# Altium schematic symbol library 电流测试工装板.SCHLIB: 46 symbols
Pins are listed as number, name and electrical type; pins without a type are passive.

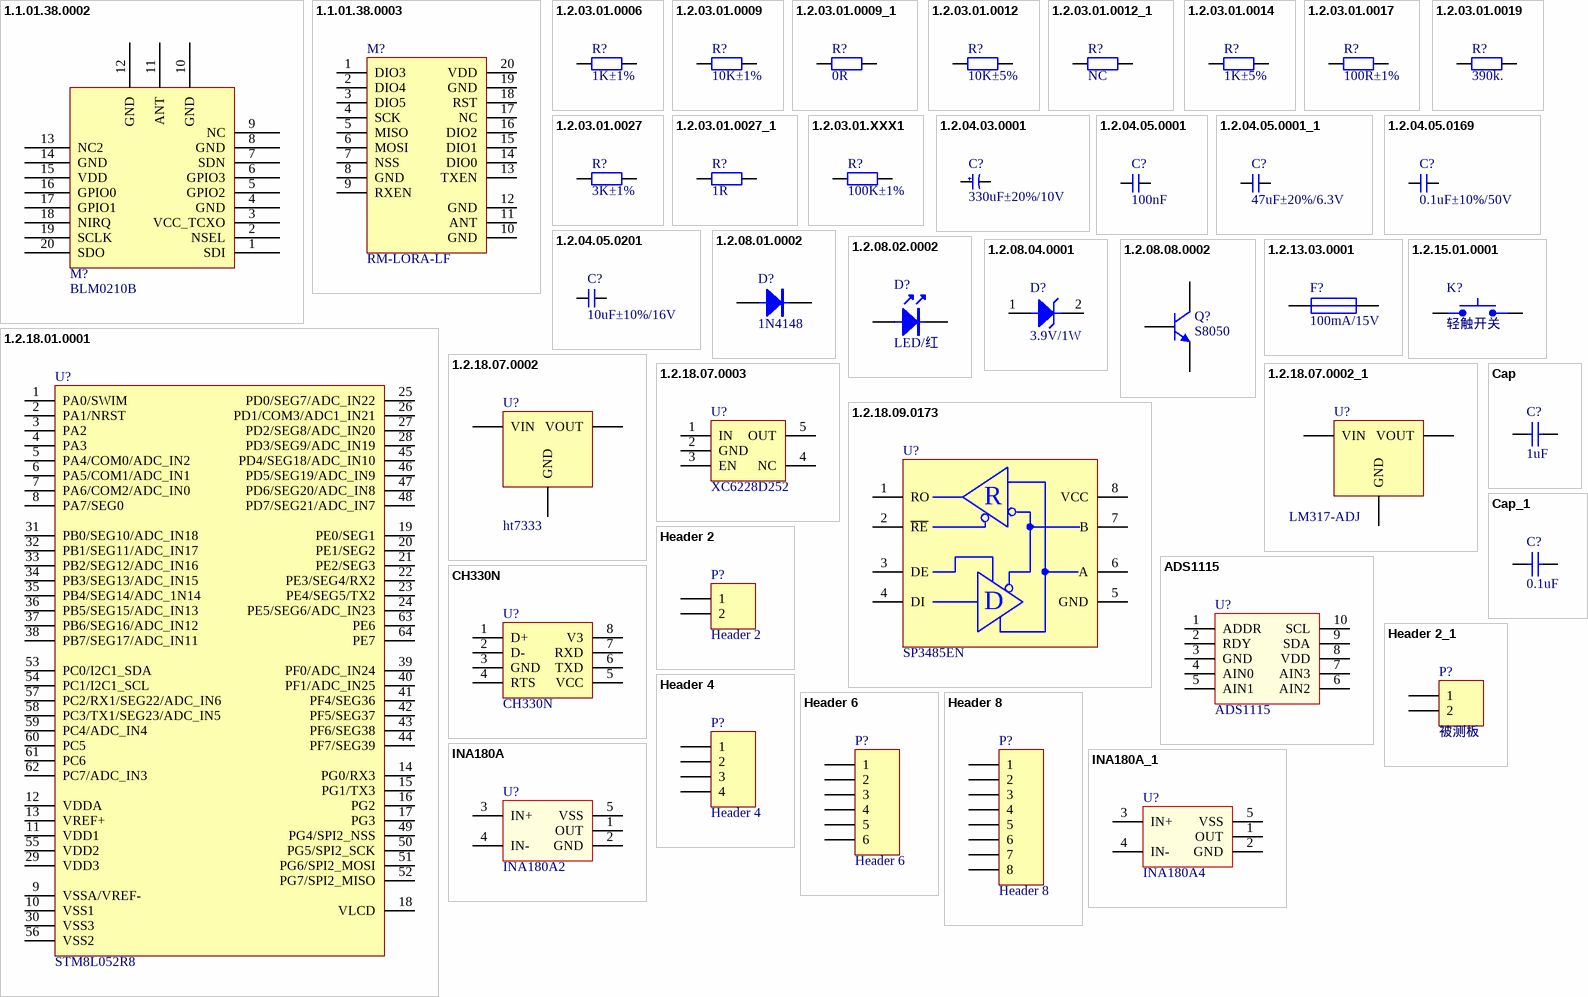
[diagram p0: symbols 1.1.01.38.0002 to INA180A_1]

## 1.1.01.38.0002
designator M?, comment BLM0210B
SI4463模块，不带LNA; Part Number: 1.1.01.38.0002; 厂家: 苏州博联; 器件高度: 待定; D/S: S; Edit Note: V1.0-创建-20180709-徐永伟; 物料等级: 研发; Part Type: RF模块; Value: BLM0210B; ComponentLink1URL: Z:\规格书\02原材料\21电路模块\04无线模块\4463模块资料.rar; 厂家型号: BLM0210B; Unit Price: ￥0.001; Footprint: SMT; ComponentLink1Description: 资料包; Component Type: standy; Pin Count: 20; Published: V1.0; Publisher: 徐永伟
footprint FskMode_BL
pins: 1 SDI, 2 NSEL, 3 VCC_TCXO, 4 GND, 5 GPIO2, 6 GPIO3, 7 SDN, 8 GND, 9 NC, 10 GND, 11 ANT, 12 GND, 13 NC2, 14 GND, 15 VDD, 16 GPIO0, 17 GPIO1, 18 NIRQ, 19 SCLK, 20 SDO

## 1.1.01.38.0003
designator M?, comment RM-LORA-LF
LORA模块_RM-LORA-PCB11-V2.21_430M~490M_Pout=17dBm_SMD20; Part Number: 1.1.01.38.0003; 厂家: 瑞臻信息; 器件高度: 待定; D/S: S; Edit Note: V1.0-创建-20180709-徐永伟; 物料等级: 量产; Part Type: RF模块; Value: RM-LORA-LF; ComponentLink1URL: Z:\规格书\02原材料\21电路模块\04无线模块\; 厂家型号: RM-LORA-PCB11-V2.21; Unit Price: ￥0.001; Footprint: SMT; ComponentLink1Description: 资料包; Component Type: standy; Pin Count: 20; Published: V1.0; Publisher: 徐永伟
footprint LORA_PIN_1
pins: 1 DIO3, 2 DIO4, 3 DIO5, 4 SCK, 5 MISO, 6 MOSI, 7 NSS, 8 GND, 9 RXEN, 10 GND, 11 ANT, 12 GND, 13 TXEN, 14 DIO0, 15 DIO1, 16 DIO2, 17 NC, 18 RST, 19 GND, 20 VDD

## 1.2.03.01.0006
designator R?, comment 1K±1%
电阻_1K±1%_1/10W_0603; Part Number: 1.2.03.01.0006; 厂家: 旺诠; 器件高度: 0.5mm; 厂家型号: RTT031001FTP; 单价: ￥0.001; 封装: R0603; D/S: S; 焊点: 2; 版本: V1.0; 创建者: 徐永伟; 编辑记录: V1.0-创建-20190329-徐永伟; 物料等级: 量产; Part Type: 贴片电阻; Value: 1K±1%; ComponentLink1URL: z:\规格书\02原材料\03电阻\01普通电阻\旺诠电阻.pdf; 供应商: 供应商; ComponentLink1Description: 规格书; ComponentLink2Description: ROHS报告; ComponentLink5Description: 代理资质; ComponentLink3Description: 可靠性测试报告; ComponentLink4Description: 性能检测报告
footprint R0603
pins: 1, 2

## 1.2.03.01.0009
designator R?, comment 10K±1%
电阻_10K±1%_1/10W_0603; Part Number: 1.2.03.01.0009; 厂家: 旺诠; 器件高度: 0.5mm; 厂家型号: RTT031002FTP; 单价: ￥0.001; 封装: R0603; D/S: S; 焊点: 2; 版本: V1.0; 创建者: 徐永伟; 编辑记录: V1.0-创建-20190329-徐永伟; 物料等级: 量产; Part Type: 贴片电阻; Value: 10K±1%; ComponentLink1URL: z:\规格书\02原材料\03电阻\01普通电阻\旺诠电阻.pdf; 供应商: 供应商; ComponentLink1Description: 规格书; ComponentLink2Description: ROHS报告; ComponentLink5Description: 代理资质; ComponentLink3Description: 可靠性测试报告; ComponentLink4Description: 性能检测报告
footprint R0603
pins: 1, 2

## 1.2.03.01.0009_1
designator R?, comment 0R
电阻_10K±1%_1/10W_0603; Part Number: 1.2.03.01.0009; Value: 10K±1%; 厂家: 旺诠; 器件高度: 0.5mm; 厂家型号: RTT031002FTP; 单价: ￥0.001; 封装: R0603; D/S: S; 焊点: 2; 版本: V1.0; 创建者: 徐永伟; 编辑记录: V1.0-创建-20190329-徐永伟; 物料等级: 量产; Part Type: 贴片电阻; ComponentLink1URL: z:\规格书\02原材料\03电阻\01普通电阻\旺诠电阻.pdf; 供应商: 供应商; ComponentLink1Description: 规格书; ComponentLink2Description: ROHS报告; ComponentLink5Description: 代理资质; ComponentLink3Description: 可靠性测试报告; ComponentLink4Description: 性能检测报告
footprint R0603
pins: 1, 2

## 1.2.03.01.0012
designator R?, comment 10K±5%
电阻_10K±5%_1/16W_0402; Part Number: 1.2.03.01.0012; 厂家: 旺诠; 器件高度: 0.5mm; 厂家型号: RTT02103JTH; 单价: ￥0.001; 封装: R0402; D/S: S; 焊点: 2; 版本: V1.0; 创建者: 徐永伟; 编辑记录: V1.0-创建-20190329-徐永伟; 物料等级: 量产; Part Type: 贴片电阻; Value: 10K±5%; ComponentLink1URL: z:\规格书\02原材料\03电阻\01普通电阻\旺诠电阻.pdf; 供应商: 供应商; ComponentLink1Description: 规格书; ComponentLink2Description: ROHS报告; ComponentLink5Description: 代理资质; ComponentLink3Description: 可靠性测试报告; ComponentLink4Description: 性能检测报告
footprint R0402
pins: 1, 2

## 1.2.03.01.0012_1
designator R?, comment NC
电阻_10K±5%_1/16W_0402; Part Number: 1.2.03.01.0012; Value: 10K±5%; 厂家: 旺诠; 器件高度: 0.5mm; 厂家型号: RTT02103JTH; 单价: ￥0.001; 封装: R0402; D/S: S; 焊点: 2; 版本: V1.0; 创建者: 徐永伟; 编辑记录: V1.0-创建-20190329-徐永伟; 物料等级: 量产; Part Type: 贴片电阻; ComponentLink1URL: z:\规格书\02原材料\03电阻\01普通电阻\旺诠电阻.pdf; 供应商: 供应商; ComponentLink1Description: 规格书; ComponentLink2Description: ROHS报告; ComponentLink5Description: 代理资质; ComponentLink3Description: 可靠性测试报告; ComponentLink4Description: 性能检测报告
footprint R0402
pins: 1, 2

## 1.2.03.01.0014
designator R?, comment 1K±5%
电阻_1K±5%_1/16W_0402; Part Number: 1.2.03.01.0014; 厂家: 旺诠; 器件高度: 0.5mm; 厂家型号: RTT02102JTH; 单价: ￥0.001; 封装: R0402; D/S: S; 焊点: 2; 版本: V1.0; 创建者: 徐永伟; 编辑记录: V1.0-创建-20190329-徐永伟; 物料等级: 量产; Part Type: 贴片电阻; Value: 1K±5%; ComponentLink1URL: z:\规格书\02原材料\03电阻\01普通电阻\旺诠电阻.pdf; 供应商: 供应商; ComponentLink1Description: 规格书; ComponentLink2Description: ROHS报告; ComponentLink5Description: 代理资质; ComponentLink3Description: 可靠性测试报告; ComponentLink4Description: 性能检测报告
footprint R0402
pins: 1, 2

## 1.2.03.01.0017
designator R?, comment 100R±1%
电阻_100R±1%_1/10W_0603; Part Number: 1.2.03.01.0017; 厂家: 华科; 器件高度: 0.5mm; 厂家型号: WR06X1000FTL; 单价: ￥0.001; 封装: R0603; D/S: S; 焊点: 2; 版本: V1.0; 创建者: 徐永伟; 编辑记录: V1.0-创建-20190329-徐永伟; 物料等级: 量产; Part Type: 贴片电阻; Value: 100R±1%; ComponentLink1URL: z:\规格书\02原材料\03电阻\01普通电阻\华科电阻.pdf; 供应商: 供应商; ComponentLink1Description: 规格书; ComponentLink2Description: ROHS报告; ComponentLink5Description: 代理资质; ComponentLink3Description: 可靠性测试报告; ComponentLink4Description: 性能检测报告
footprint R0603
pins: 1, 2

## 1.2.03.01.0019
designator R?, comment 390k.
电阻_510R±1%_1/16W_0402; Part Number: 1.2.03.01.0019; Value: 510K±1%; 厂家: 厚声; 器件高度: 0.5mm; 厂家型号: 0402WGF5103TCE; 单价: ￥0.001; 封装: R0402; D/S: S; 焊点: 2; 版本: V1.0; 创建者: 徐永伟; 编辑记录: V1.0-创建-20190329-徐永伟; 物料等级: 量产; Part Type: 贴片电阻; ComponentLink1URL: z:\规格书\02原材料\03电阻\01普通电阻\厚声电阻.pdf; 供应商: 供应商; ComponentLink1Description: 规格书; ComponentLink2Description: ROHS报告; ComponentLink5Description: 代理资质; ComponentLink3Description: 可靠性测试报告; ComponentLink4Description: 性能检测报告
footprint R0402
pins: 1, 2

## 1.2.03.01.0027
designator R?, comment 3K±1%
电阻_3K±1%_1/10W_0603; Part Number: 1.2.03.01.0027; 厂家: 国巨; 器件高度: 0.5mm; 厂家型号: RC0603FR-073KL; 单价: ￥0.001; 封装: R0603; D/S: S; 焊点: 2; 版本: V1.0; 创建者: 徐永伟; 编辑记录: V1.0-创建-20190329-徐永伟; 物料等级: 量产; Part Type: 贴片电阻; Value: 3K±1%; ComponentLink1URL: z:\规格书\02原材料\03电阻\01普通电阻\国巨电阻.pdf; 供应商: 供应商; ComponentLink1Description: 规格书; ComponentLink2Description: ROHS报告; ComponentLink5Description: 代理资质; ComponentLink3Description: 可靠性测试报告; ComponentLink4Description: 性能检测报告
footprint R0603
pins: 1, 2

## 1.2.03.01.0027_1
designator R?, comment 1R
电阻_3K±1%_1/10W_0603; Part Number: 1.2.03.01.0027; Value: 3K±1%; 厂家: 国巨; 器件高度: 0.5mm; 厂家型号: RC0603FR-073KL; 单价: ￥0.001; 封装: R0603; D/S: S; 焊点: 2; 版本: V1.0; 创建者: 徐永伟; 编辑记录: V1.0-创建-20190329-徐永伟; 物料等级: 量产; Part Type: 贴片电阻; ComponentLink1URL: z:\规格书\02原材料\03电阻\01普通电阻\国巨电阻.pdf; 供应商: 供应商; ComponentLink1Description: 规格书; ComponentLink2Description: ROHS报告; ComponentLink5Description: 代理资质; ComponentLink3Description: 可靠性测试报告; ComponentLink4Description: 性能检测报告
footprint R0603
pins: 1, 2

## 1.2.03.01.XXX1
designator R?, comment 100K±1%
贴片电阻，1K±5%，1/16W，50V，0402; Part Number: 1.2.03.01.XXX1; Supplier Manufacturer: Hottchohm; Old P/N: 00528; Value: 22K±1%; D/S: S; Edit Note: V1.0-创建-20160831-徐永伟; Part Type: 普通电阻; Supplier: 供应商; height: 0.5mm; Unit Price: ￥0.001; Footprint: 0402; ComponentLink1Description: 规格书; Component Type: standy; Pin Count: 2; Published: V1.0; Publisher: 徐永伟
footprint R0402
pins: 1, 2

## 1.2.04.03.0001
designator C?, comment 330uF±20%/10V
电解电容_330uF±20%/10V_0.2R_-40~105℃_4000Hours_D6R3H11; Part Number: 1.2.04.03.0001; 厂家: 常州华威; 器件高度: 11mm; D/S: D; Edit Note: V1.0-创建-20190329-徐永伟; 物料等级: 试产; Part Type: 电解电容; Value: 330uF±20%/10V; ComponentLink1URL: z:\规格书\02原材料\04电容\03铝电解电容\常州超威电解电容RT系列.pdf; Unit Price: ￥0.001; Footprint: DIP; ComponentLink1Description: 规格书; Component Type: standy; Pin Count: 2; Published: V1.0; Publisher: 徐永伟
footprint CAP_2P_2R5_D6R3H11_W
pins: 1, 2

## 1.2.04.05.0001
designator C?, comment 100nF
MLCC_47uF±20%_6.3V_X5R_H1.6mm_1206; Part Number: 1.2.04.05.0001; Value: 20pF; 厂家: 三星; 器件高度: 1.6mm; 厂家型号: CL31A476MQHNNNE; D/S: S; Edit Note: V1.0-创建-20180711-徐永伟; 器件状态: 试产; Part Type: MLCC; ComponentLink1URL: z:\规格书\02原材料\04电容\05瓷片电容\SAMS-S-A0000377162-1.pdf; Unit Price: ￥0.001; Footprint: 1206; ComponentLink1Description: 规格书; Component Type: standy; Pin Count: 2; Published: V1.0; Publisher: 徐永伟
footprint c0402 (C0402)
pins: 1, 2

## 1.2.04.05.0001_1
designator C?, comment 47uF±20%/6.3V
MLCC_47uF±20%_6.3V_X5R_H1.6mm_1206; Part Number: 1.2.04.05.0001; 厂家: 三星; 器件高度: 1.6mm; 厂家型号: CL31A476MQHNNNE; D/S: S; Edit Note: V1.0-创建-20180711-徐永伟; 物料等级: 试产; Part Type: MLCC; Value: 47uF±20%/6.3V; ComponentLink1URL: z:\规格书\02原材料\04电容\05瓷片电容\SAMS-S-A0000377162-1.pdf; Unit Price: ￥0.001; Footprint: C1206; ComponentLink1Description: 规格书; Component Type: standy; Pin Count: 2; Published: V1.0; Publisher: 徐永伟
footprint C1206
pins: 1, 2

## 1.2.04.05.0169
designator C?, comment 0.1uF±10%/50V
瓷片电容-0.1uF-±10%-16V-X5R-0402; Part Number: 1.2.04.05.0169; Supplier Manufacturer: 未知; Old P/N: 00011; D/S: S; Edit Note: V1.0-创建-20161230-徐永伟; Grade: A; Part Type: MLCC; Value: 0.1uF±10%/50V; ComponentLink1URL: z:\altiumdesigner\规格书\02原材料\04电容\05瓷片电容\; Supplier: 供应商; height: XX; Model: 未知; Unit Price: ￥0.001; Footprint: 0402; ComponentLink1Description: 规格书; Component Type: standy; ComponentLink2Description: ROHS报告; ComponentLink2URL: z:\altiumdesigner\规格书\02原材料\04电容\05瓷片电容\; Pin Count: 2; Published: V1.0; Publisher: 徐永伟
footprint c0402 (C0402)
pins: 1, 2

## 1.2.04.05.0201
designator C?, comment 10uF±10%/16V
瓷片电容-10uF-±10%-16V-X5R-0805; Part Number: 1.2.04.05.0201; Supplier Manufacturer: 未知; Old P/N: 00106; D/S: S; Edit Note: V1.0-创建-20161230-徐永伟; Grade: A; Part Type: MLCC; Value: 10uF±10%/16V; ComponentLink1URL: z:\altiumdesigner\规格书\02原材料\04电容\05瓷片电容\; Supplier: 供应商; height: XX; Model: 未知; Unit Price: ￥0.001; Footprint: 0805; ComponentLink1Description: 规格书; Component Type: standy; ComponentLink2Description: ROHS报告; ComponentLink2URL: z:\altiumdesigner\规格书\02原材料\04电容\05瓷片电容\; Pin Count: 2; Published: V1.0; Publisher: 徐永伟
footprint c0805 (Chip Capacitor, 2-Leads, Body 2.00x1.20mm, IPC Medium Density)
pins: 1, 2

## 1.2.08.01.0002
designator D?, comment 1N4148
开关二极管_1N4148_0.3A/100V_Vf=0.5V_SOD123; Part Number: 1.2.08.01.0002; 单价: ￥0.001; D/S: S; Edit Note: V1.0-创建-20190815-徐永伟; 物料等级: 量产; Part Type: 开关二极管; Value: 1N4148; ComponentLink1URL: Z:\规格书\02原材料\08晶体管\01二极管\1N4148SOD123.PDF; 厂家型号: 1N4148; Footprint: SOD123; ComponentLink1Description: 规格书; Component Type: standy; Pin Count: 2; Published: V1.0; Publisher: 徐永伟
footprint SOD123_2P_1R6X2R7
pins: 1 A, 2 K

## 1.2.08.02.0002
designator D?, comment LED/红
发光二极管_红色_Vf=2.3V_0603; Part Number: 1.2.08.02.0002; 单价: ￥0.001; D/S: S; Edit Note: V1.0-创建-20190815-徐永伟; 物料等级: 量产; Part Type: LED; Value: LED/红; ComponentLink1URL: Z:\规格书\02原材料\08晶体管\02发光二极管\E6C0603URAC1UDA(630nm).pdf; 代理商: 代理商; Footprint: 0603; ComponentLink1Description: 规格书; Component Type: standy; Pin Count: 2; Published: V1.0; Publisher: 徐永伟
footprint PZ_1X2P_2R54_Z
pins: 1 A, 2 K

## 1.2.08.04.0001
designator D?, comment 3.9V/1W
稳压二极管_ZM4730A_3.9V/1W_LL41; Part Number: 1.2.08.04.0001; 单价: ￥0.001; D/S: S; Edit Note: V1.0-创建-20190815-徐永伟; 物料等级: 量产; Part Type: 稳压二极管; Value: 3.9V/1W; ComponentLink1URL: Z:\规格书\02原材料\08晶体管\04稳压二极管\ZM4730A.pdf; 代理商: 代理商; 厂家型号: ZM4730A; Footprint: LL41; ComponentLink1Description: 规格书; Component Type: standy; Pin Count: 2; Published: V1.0; Publisher: 徐永伟
footprint LL41_2P_D2R5H5R0
pins: 1 A, 2 K

## 1.2.08.08.0002
designator Q?, comment S8050
三极管	_NPN_S8050_Vceo=25V_Ic=0.5A_β>50_SOT23; Part Number: 1.2.08.08.0002; 单价: ￥0.001; D/S: S; Edit Note: V1.0-创建-20190815-徐永伟; 物料等级: 量产; Part Type: 三极管; Value: S8050; ComponentLink1URL: Z:\规格书\02原材料\08晶体管\08三极管\S8050_SOT23.pdf; 代理商: 代理商; 厂家型号: S8050; Footprint: SOT23; ComponentLink1Description: 规格书; Component Type: standy; Pin Count: 3; Published: V1.0; Publisher: 徐永伟
footprint SOT23_3P_0R95_1R3X2R9
pins: 1 B, 2 E, 3 C

## 1.2.13.03.0001
designator F?, comment 100mA/15V
自恢复保险丝_0.05A/15V_100A_0.5W_0.5A/1.5s_0603; Part Number: 1.2.13.03.0001; Model: ASMD0603-010; D/S: S; Edit Note: V1.0-创建-20190816-徐永伟; 物料等级: 研发; Part Type: 自恢复保险丝; Value: 100mA/15V; ComponentLink1URL: Z:\规格书\02原材料\13保护器件\03自恢复保险丝\0.05APTC.PDF; height: 1.0mm; Unit Price: ￥0.001; Footprint: 0603; ComponentLink1Description: 规格书; Component Type: standy; Pin Count: 2; Published: V1.0; Publisher: 徐永伟
footprint FUSE0603
pins: 1, 2

## 1.2.15.01.0001
designator K?, comment 轻触开关
轻触开关_12Vdc/50mA_0.25mm_250gf_3.6X6.1X2.5mm_表贴SMD; Part Number: 1.2.15.01.0001; D/S: S; Edit Note: V1.0-创建-20190825-徐永伟; 物料等级: 量产; Part Type: 贴片轻触开关; Value: 轻触开关; ComponentLink1URL: Z:\规格书\02原材料\15机械开关\01轻触按钮开关\C118141.pdf; height: 2.5mm; Unit Price: ￥0.001; Footprint: 3.5X6.0; ComponentLink1Description: 规格书; Component Type: standy; Pin Count: 2; Published: V1.0; Publisher: 徐永伟
footprint PZ_1X2P_2R54_Z
pins: 1, 2

## 1.2.18.01.0001
designator U?, comment STM8L052R8
MCU_STM8L052R8_Vin=1.8~3.6V_16MHz_Flash/64Kb_RAM/4Kb_8位_E2PROM/256B_LCD8X24_-40~85℃_LQFP64; Part Number: 1.2.18.01.0001; 厂家: ST; 器件高度: 1.6mm; 厂家型号: STM8L052R8T6; 单价: ￥0.001; D/S: S; Edit Note: V1.0-创建-20170105-徐永伟; 物料等级: 量产; Part Type: MCU; Value: STM8L052R8; ComponentLink1URL: Z:\规格书\02原材料\18集成电路\01通用处理器\STM8L052R8.pdf; Footprint: LQFP64; ComponentLink1Description: 规格书; Component Type: standy; ComponentLink2Description: 用户手册; ComponentLink2URL: Z:\规格书\02原材料\18集成电路\01通用处理器\STM8L参考手册.pdf; Pin Count: 64; Published: V1.0; Publisher: 徐永伟
footprint LQFP_64P_0R5_10R0X10R0
pins: 1 PA0/SWIM, 2 PA1/NRST, 3 PA2, 4 PA3, 5 PA4/COM0/ADC_IN2, 6 PA5/COM1/ADC_IN1, 7 PA6/COM2/ADC_IN0, 8 PA7/SEG0, 9 VSSA/VREF-, 10 VSS1, 11 VDD1, 12 VDDA, 13 VREF+, 14 PG0/RX3, 15 PG1/TX3, 16 PG2, 17 PG3, 18 VLCD, 19 PE0/SEG1, 20 PE1/SEG2, 21 PE2/SEG3, 22 PE3/SEG4/RX2, 23 PE4/SEG5/TX2, 24 PE5/SEG6/ADC_IN23, 25 PD0/SEG7/ADC_IN22, 26 PD1/COM3/ADC1_IN21, 27 PD2/SEG8/ADC_IN20, 28 PD3/SEG9/ADC_IN19, 29 VDD3, 30 VSS3, 31 PB0/SEG10/ADC_IN18, 32 PB1/SEG11/ADC_IN17, 33 PB2/SEG12/ADC_IN16, 34 PB3/SEG13/ADC_IN15, 35 PB4/SEG14/ADC_1N14, 36 PB5/SEG15/ADC_IN13, 37 PB6/SEG16/ADC_IN12, 38 PB7/SEG17/ADC_IN11, 39 PF0/ADC_IN24, 40 PF1/ADC_IN25, 41 PF4/SEG36, 42 PF5/SEG37, 43 PF6/SEG38, 44 PF7/SEG39, 45 PD4/SEG18/ADC_IN10, 46 PD5/SEG19/ADC_IN9, 47 PD6/SEG20/ADC_IN8, 48 PD7/SEG21/ADC_IN7, 49 PG4/SPI2_NSS, 50 PG5/SPI2_SCK, 51 PG6/SPI2_MOSI, 52 PG7/SPI2_MISO, 53 PC0/I2C1_SDA, 54 PC1/I2C1_SCL, 55 VDD2, 56 VSS2, 57 PC2/RX1/SEG22/ADC_IN6, 58 PC3/TX1/SEG23/ADC_IN5, 59 PC4/ADC_IN4, 60 PC5, 61 PC6, 62 PC7/ADC_IN3, 63 PE6, 64 PE7

## 1.2.18.07.0002
designator U?, comment ht7333
HT7333_LDO稳压_250mA/3.3V_Vmax=12V_SOT89; Part Number: 1.2.18.07.0002; 厂家: HOLTEK; 器件高度: 1.6mm; 单价: ￥0.001; D/S: S; Edit Note: V1.0-创建-20180709-徐永伟; 物料等级: 量产; Part Type: LDO; Value: ht7333; ComponentLink1URL: Z:\规格书\02原材料\18集成电路\17线性稳压器\HT7318.pdf; 厂家型号: HT7333; Footprint: SOT89; ComponentLink1Description: 规格书; Component Type: standy; Pin Count: 3; Published: V1.0; Publisher: 徐永伟
footprint SOT89_3P_1R5_2R5X4R5
pins: 1 GND, 2 VIN, 3 VOUT

## 1.2.18.07.0002_1
designator U?, comment LM317-ADJ
HT7333_LDO稳压_250mA/3.3V_Vmax=12V_SOT89; Part Number: 1.2.18.07.0002; Value: ht7333; 厂家: HOLTEK; 器件高度: 1.6mm; 单价: ￥0.001; D/S: S; Edit Note: V1.0-创建-20180709-徐永伟; 物料等级: 量产; Part Type: LDO; ComponentLink1URL: Z:\规格书\02原材料\18集成电路\17线性稳压器\HT7318.pdf; 厂家型号: HT7333; Footprint: SOT89; ComponentLink1Description: 规格书; Component Type: standy; Pin Count: 3; Published: V1.0; Publisher: 徐永伟
footprint TO252_3P_2R3_6R2X6R7
pins: 1 GND, 2 VIN, 3 VOUT

## 1.2.18.07.0003
designator U?, comment XC6228D252
XC6228D252_LDO稳压_500mA/2.5V_Vmax=7V_SOT23-5; Part Number: 1.2.18.07.0003; 厂家: TOREX; 器件高度: 1.35mm; 厂家型号: XC6228D252VR; 单价: ￥0.001; D/S: S; Edit Note: V1.0-创建-20180709-徐永伟; 物料状态: 量产; Part Type: LDO; Value: XC6228D252; ComponentLink1URL: Z:\规格书\02原材料\18集成电路\17线性稳压器\XC6228-2.5V.pdf; Footprint: SOT23-5; ComponentLink1Description: 规格书; Component Type: standy; Pin Count: 5; Published: V1.0; Publisher: 徐永伟
footprint SOT23_5P_0R95_1R6X2R9
pins: 1 IN, 2 GND, 3 EN, 4 NC, 5 OUT

## 1.2.18.09.0173
designator U?, comment SP3485EN
RS485收发器-SP3485EN-支持485收发-SOP8; Part Number: 1.2.18.09.0173; Supplier Manufacturer: Sipex; Old P/N: 00289; D/S: S; Edit Note: V1.0-创建-20170122-徐永伟; Grade: A; ComponentLink1URL: Z:\AltiumDesigner\规格书\02原材料\18集成电路\09接口芯片\SP3485EN.pdf; ComponentLink1Description: 规格书; ComponentLink2Description: ROHS报告; Part Type: 接口IC; Value: SP3485EN; height: 1.7mm; Model: SP3485EN; Unit Price: ￥0.001; Footprint: SOP8; Component Type: standy; Pin Count: 8; Published: V1.0; Publisher: 徐永伟
footprint SOP_8P_1R27_3R9X4R9 (SOP, 8-Leads, Body 4.89x3.90mm, Pitch 1.27mm, IPC Medium Density)
pins: 1 RO, 2 ~{RE}, 3 DE, 4 DI, 5 GND, 6 A, 7 B, 8 VCC
text: R; D

## ADS1115
designator U?
footprint MSOP_10P_3R0X5R0_P (TSSOP, 10-Leads, Body 3.00x3.00mm, Pitch 0.50mm, Thermal Pad 2.10x1.83mm, IPC Medium Density)
pins: 1 ADDR, 2 RDY, 3 GND, 4 AIN0, 5 AIN1, 6 AIN2, 7 AIN3, 8 VDD, 9 SDA, 10 SCL

## Cap
designator C?, comment 1uF
Capacitor,Ceramic,0603-16V-X5R-104-K-YAGEO; Manufacturer: YAGEO; Value: 0.1uF; Ordering code: CC0603KRX5R7BB104; Published: 8-Jun-2000; LatestRevisionDate: 17-Jul-2002; LatestRevisionNote: Re-released for DXP Platform.; PackageReference: RAD-0.3; Publisher: Altium Limited
footprint C0402
footprint SC0402
pins: 1, 2
2 alternate drawings of the same symbol

## Cap_1
designator C?, comment 0.1uF
Capacitor,Ceramic,0603-16V-X5R-104-K-YAGEO; Manufacturer: YAGEO; Ordering code: CC0603KRX5R7BB104; Published: 8-Jun-2000; LatestRevisionDate: 17-Jul-2002; LatestRevisionNote: Re-released for DXP Platform.; PackageReference: RAD-0.3; Publisher: Altium Limited; Value: 0.1uF
footprint C0402
footprint SC0402
pins: 1, 2
2 alternate drawings of the same symbol

## CH330N
designator U?
footprint SOP_8P_1R27_3R9X4R9 (SOP, 8-Leads, Body 4.89x3.90mm, Pitch 1.27mm, IPC Medium Density)
pins: 1 D+, 2 D-, 3 GND, 4 RTS, 5 VCC, 6 TXD, 7 RXD, 8 V3

## Header 2
designator P?
Header, 2-Pin; LatestRevisionDate: 17-Jul-2002; LatestRevisionNote: Re-released for DXP Platform.; Publisher: Altium Limited
footprint HDR1X2 (Connector; Header; 2 Position)
signal-integrity model Connector
pins: 1, 2

## Header 2_1
designator P?, comment 被测板
Header, 2-Pin; LatestRevisionDate: 17-Jul-2002; LatestRevisionNote: Re-released for DXP Platform.; Publisher: Altium Limited
footprint HDR1X2 (Connector; Header; 2 Position)
signal-integrity model Connector
pins: 1, 2

## Header 4
designator P?
Header, 4-Pin; LatestRevisionDate: 17-Jul-2002; LatestRevisionNote: Re-released for DXP Platform.; Publisher: Altium Limited
footprint HDR1X4 (Connector; Header; 4 Position)
signal-integrity model Connector
pins: 1, 2, 3, 4

## Header 6
designator P?
Header, 6-Pin; LatestRevisionDate: 17-Jul-2002; LatestRevisionNote: Re-released for DXP Platform.; Publisher: Altium Limited
footprint HDR1X6 (Connector; Header; 6 Position)
signal-integrity model Connector
pins: 1, 2, 3, 4, 5, 6

## Header 8
designator P?
Header, 8-Pin; LatestRevisionDate: 17-Jul-2002; LatestRevisionNote: Re-released for DXP Platform.; Publisher: Altium Limited
footprint HDR1X8 (Connector; Header; 8 Position)
signal-integrity model Connector
pins: 1, 2, 3, 4, 5, 6, 7, 8

## INA180A
designator U?, comment INA180A2
footprint SOT23_5P_0R95_1R6X2R9
pins: 1 OUT, 2 GND, 3 IN+, 4 IN-, 5 VSS

## INA180A_1
designator U?, comment INA180A4
footprint SOT23_5P_0R95_1R6X2R9
pins: 1 OUT, 2 GND, 3 IN+, 4 IN-, 5 VSS

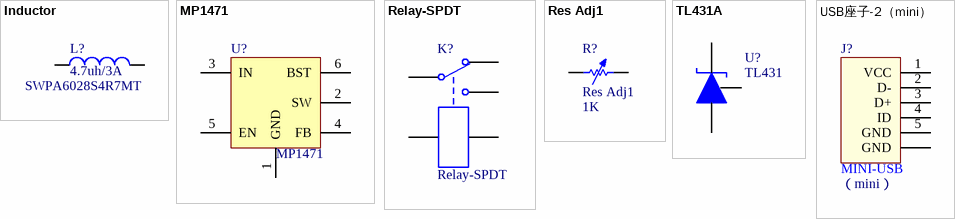
[diagram p1: symbols Inductor to USB座子-2（mini）]

## Inductor
designator L?, comment SWPA6028S4R7MT  value 4.7uh/3A
Inductor
footprint SMD_INC_2P_6R0X6R0
pins: 1, 2

## MP1471
designator U?
footprint TSOT23_6P_0R95_1R6X2R9
pins: 1 GND, 2 SW, 3 IN, 4 FB, 5 EN, 6 BST

## Relay-SPDT
designator K?
Single-Pole Dual-Throw Relay; Published: 24-Mar-1999; LatestRevisionDate: 17-Jul-2002; LatestRevisionNote: Re-released for DXP Platform.; PackageReference: MODULE5B; Publisher: Altium Limited
footprint SRS-XXVDC-SL
simulation model SPDTRELAY (Spice Subcircuit)
pins: 1, 2, 3, 4, 5

## Res Adj1
designator R?  value 1K
Variable Resistor; Set Position: 0.5; Published: 8-Jun-2000; LatestRevisionDate: 17-Jul-2002; LatestRevisionNote: Re-released for DXP Platform.; PackageReference: AXIAL-0.7; Publisher: Altium Limited; PackageDescription: Axial Device, Thru-Hole; 2 Leads; 0.7 in Pin Spacing
footprint AXIAL-0.7 (Axial Device, Thru-Hole; 2 Leads; 0.7 in Pin Spacing)
simulation model VRES (Variable Resistor)
signal-integrity model Res Adj
pins: 1, 2

## TL431A
designator U?, comment TL431
footprint SOT23_3P_0R95_1R3X2R9 (SOT23, 3-Leads, Body 2.90x2.40mm, Pitch 0.95mm, IPC Medium Density)
pins: 1 K, 2 REF, 3 A

## USB座子-2（mini）
designator J?, comment （mini）
footprint DIP_MINI_USB-1
pins: 1 VCC, 2 D-, 3 D+, 4 ID, 5 GND, A GND
text: MINI-USB